# EAGLE library part I2S-MODULE-PCM5102A-LITE (library I2S-MODULE-PCM5102A)
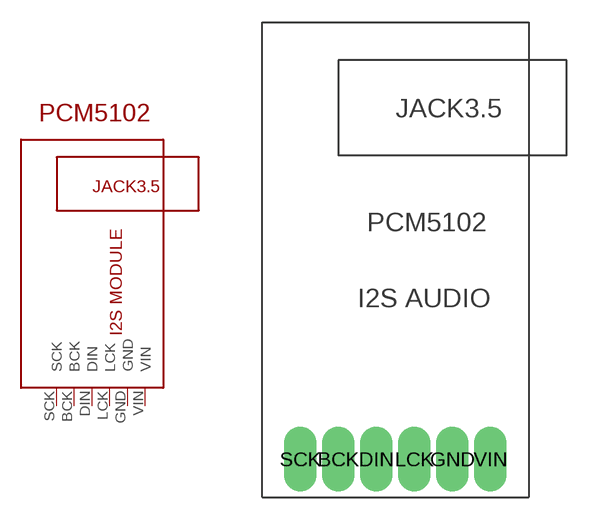
[diagram p1: symbol with the pads of I2S-MODULE-PCM5102A-LITE; footprint I2S-MODULE-PCM5102A-LITE]

Designator prefix -

## I2S-MODULE-PCM5102A-LITE  [I2S-MODULE-PCM5102A-LITE]
BCK  BCK
DIN  DIN
GND  GND
LCK  LCK
SCK  SCK
VIN  VIN

## Footprint I2S-MODULE-PCM5102A-LITE (pad centres in mm)
drill 1 pad 2.184 long: BCK -3.81,-13.335; DIN -1.27,-13.335; GND 3.81,-13.335; LCK 1.27,-13.335; SCK -6.35,-13.335; VIN 6.35,-13.335